# Altium integrated library Silicon Labs Clocks and Oscillators.IntLib: 678 symbols (part 6 of 45)
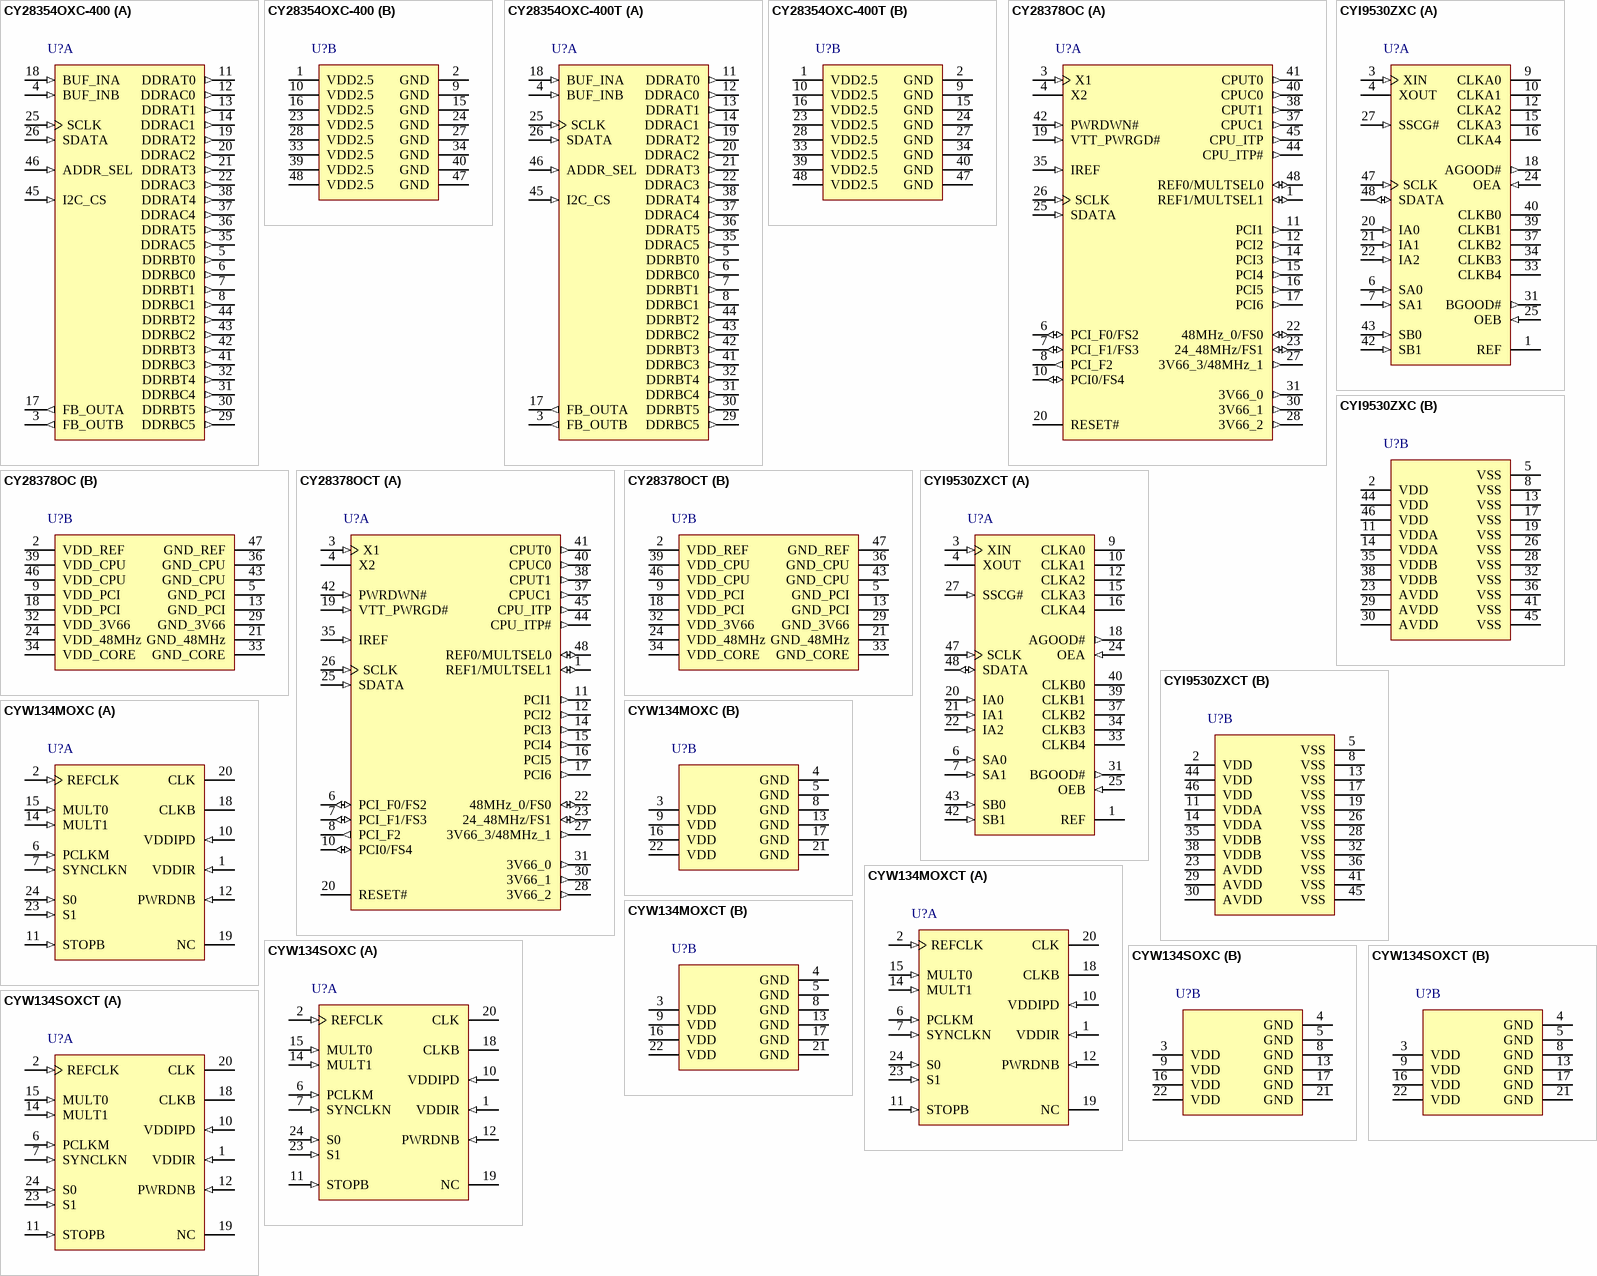
[diagram p49: symbols CY28354OXC-400 to CYW134SOXCT]

## CYW134MOXCT
designator U?
Direct Rambus(TM) Clock Generator, 3.3 V, 25 to 400 MHz Output, 0 to 70 degC, 24-pin SOP, Tape and Reel; Manufacturer: Silicon Labs; PartNumber: CYW134MOXCT; Output Format: RSL; Phase Jitter (RMS): > 1 ps; Reference Inputs: 1; VDD: 3.3 V; Sub-Family: Clock Generators; DatasheetVersion: Rev. *C; PackageReference: QSOP-24; PackageDescription: 24-Pin Quarter-Size Small-Outline Package, Body 8.65 x 3.9 mm, Pitch 0.635 mm; Supplier 1: Digi-Key; Supplier Part Number 1: CYW134MOXCT-ND; Supplier 2: Mouser; Supplier Part Number 2: 634-CYW134MOXCT; Output Frequency (MHz): 25 to 400; Packing: Tape and Reel; Mounting Technology: Surface Mount; ComponentLink1Description: Manufacturer URL; ComponentLink1URL: http://www.silabs.com/; ComponentLink2Description: Datasheet; ComponentLink2URL: http://www.silabs.com/Support%20Documents/TechnicalDocs/W134.pdf; ComponentLink3Description: Package Specification; ComponentLink3URL: http://www.silabs.com/Support%20Documents/TechnicalDocs/W134.pdf
footprint SLAB-QSOP-24_A_N (SOP, 24-Leads, Body 8.7x4mm, Pitch 0.635mm, IPC Medium Density)
footprint SLAB-QSOP-24_A_L (SOP, 24-Leads, Body 8.7x4mm, Pitch 0.635mm, IPC High Density)
footprint SLAB-QSOP-24_A_M (SOP, 24-Leads, Body 8.7x4mm, Pitch 0.635mm, IPC Low Density)
part A pins: 1 VDDIR (in) "Reference for REFCLK. Voltage reference for input reference clock.", 2 REFCLK (in) "Reference Clock Input. Reference clock input, normally supplied by a system frequency synthesizer (Cypress W133).", 6 PCLKM (in) "Phase Detector Input. The phase difference between this signal and SYNCLKN is used to synchronize the Rambus Channel Clock with the system clock. Both PCLKM and SYNCLKN are provided by the Gear Ratio Logic in the memory (See Datasheet)", 7 SYNCLKN (in) "Phase Detector Input. The phase difference between this signal and PCLKM is used to synchronize the Rambus Channel Clock with the system clock. Both PCLKM and SYNCLKN are provided by the Gear Ratio Logic in the memory (See Datasheet)", 10 VDDIPD (in) "Reference for Phase Detector. Voltage reference for phase detector inputs and StopB.", 11 STOPB (in) "Clock Output Enable. When this input is driven to active LOW, it disables the differential Rambus Channel clocks.", 12 PWRDNB (in) "Active LOW Power-down. When this input is driven to active LOW, it disables the differential Rambus Channel clocks and places the W134M/W134S in power-down mode.", 14 MULT1 (in) "PLL Multiplier Select. These inputs select the PLL prescaler and feedback dividers to determine the multiply ratio for the PLL for the input REFCLK.", 15 MULT0 (in) "PLL Multiplier Select. These inputs select the PLL prescaler and feedback dividers to determine the multiply ratio for the PLL for the input REFCLK.", 18 CLKB (hiz) "Complementary Output Clock. Differential Rambus Channel clock outputs.", 19 NC "No Connect", 20 CLK (hiz) "Complementary Output Clock. Differential Rambus Channel clock outputs.", 23 S1 (in) "Mode Control Input. These inputs control the operating mode of the W134M/W134S.", 24 S0 (in) "Mode Control Input. These inputs control the operating mode of the W134M/W134S."
part B pins: 3 VDD (power) "Power Connection. Power supply for core logic and output buffers. Connected to 3.3V supply.", 4 GND (power) "Ground Connection. Connect all ground pins to the common system ground plane.", 5 GND (power) "Ground Connection. Connect all ground pins to the common system ground plane.", 8 GND (power) "Ground Connection. Connect all ground pins to the common system ground plane.", 9 VDD (power) "Power Connection. Power supply for core logic and output buffers. Connected to 3.3V supply.", 13 GND (power) "Ground Connection. Connect all ground pins to the common system ground plane.", 16 VDD (power) "Power Connection. Power supply for core logic and output buffers. Connected to 3.3V supply.", 17 GND (power) "Ground Connection. Connect all ground pins to the common system ground plane.", 21 GND (power) "Ground Connection. Connect all ground pins to the common system ground plane.", 22 VDD (power) "Power Connection. Power supply for core logic and output buffers. Connected to 3.3V supply."

## CYW134SOXC
designator U?
Direct Rambus(TM) Clock Generator, 3.3 V, 25 to 400 MHz Output, 0 to 70 degC, 24-pin SOP; Manufacturer: Silicon Labs; PartNumber: CYW134SOXC; Output Format: RSL; Reference Inputs: 1; VDD: 3.3 V; Sub-Family: Clock Generators; DatasheetVersion: Rev. *C; PackageReference: QSOP-24; PackageDescription: 24-Pin Quarter-Size Small-Outline Package, Body 8.65 x 3.9 mm, Pitch 0.635 mm; Output Frequency (MHz): 25 to 400; Mounting Technology: Surface Mount; ComponentLink1Description: Manufacturer URL; ComponentLink1URL: http://www.silabs.com/; ComponentLink2Description: Datasheet; ComponentLink2URL: http://www.silabs.com/Support%20Documents/TechnicalDocs/W134.pdf; ComponentLink3Description: Package Specification; ComponentLink3URL: http://www.silabs.com/Support%20Documents/TechnicalDocs/W134.pdf
footprint SLAB-QSOP-24_A_N (SOP, 24-Leads, Body 8.7x4mm, Pitch 0.635mm, IPC Medium Density)
footprint SLAB-QSOP-24_A_L (SOP, 24-Leads, Body 8.7x4mm, Pitch 0.635mm, IPC High Density)
footprint SLAB-QSOP-24_A_M (SOP, 24-Leads, Body 8.7x4mm, Pitch 0.635mm, IPC Low Density)
part A pins: 1 VDDIR (in) "Reference for REFCLK. Voltage reference for input reference clock.", 2 REFCLK (in) "Reference Clock Input. Reference clock input, normally supplied by a system frequency synthesizer (Cypress W133).", 6 PCLKM (in) "Phase Detector Input. The phase difference between this signal and SYNCLKN is used to synchronize the Rambus Channel Clock with the system clock. Both PCLKM and SYNCLKN are provided by the Gear Ratio Logic in the memory (See Datasheet)", 7 SYNCLKN (in) "Phase Detector Input. The phase difference between this signal and PCLKM is used to synchronize the Rambus Channel Clock with the system clock. Both PCLKM and SYNCLKN are provided by the Gear Ratio Logic in the memory (See Datasheet)", 10 VDDIPD (in) "Reference for Phase Detector. Voltage reference for phase detector inputs and StopB.", 11 STOPB (in) "Clock Output Enable. When this input is driven to active LOW, it disables the differential Rambus Channel clocks.", 12 PWRDNB (in) "Active LOW Power-down. When this input is driven to active LOW, it disables the differential Rambus Channel clocks and places the W134M/W134S in power-down mode.", 14 MULT1 (in) "PLL Multiplier Select. These inputs select the PLL prescaler and feedback dividers to determine the multiply ratio for the PLL for the input REFCLK.", 15 MULT0 (in) "PLL Multiplier Select. These inputs select the PLL prescaler and feedback dividers to determine the multiply ratio for the PLL for the input REFCLK.", 18 CLKB (hiz) "Complementary Output Clock. Differential Rambus Channel clock outputs.", 19 NC "No Connect", 20 CLK (hiz) "Complementary Output Clock. Differential Rambus Channel clock outputs.", 23 S1 (in) "Mode Control Input. These inputs control the operating mode of the W134M/W134S.", 24 S0 (in) "Mode Control Input. These inputs control the operating mode of the W134M/W134S."
part B pins: 3 VDD (power) "Power Connection. Power supply for core logic and output buffers. Connected to 3.3V supply.", 4 GND (power) "Ground Connection. Connect all ground pins to the common system ground plane.", 5 GND (power) "Ground Connection. Connect all ground pins to the common system ground plane.", 8 GND (power) "Ground Connection. Connect all ground pins to the common system ground plane.", 9 VDD (power) "Power Connection. Power supply for core logic and output buffers. Connected to 3.3V supply.", 13 GND (power) "Ground Connection. Connect all ground pins to the common system ground plane.", 16 VDD (power) "Power Connection. Power supply for core logic and output buffers. Connected to 3.3V supply.", 17 GND (power) "Ground Connection. Connect all ground pins to the common system ground plane.", 21 GND (power) "Ground Connection. Connect all ground pins to the common system ground plane.", 22 VDD (power) "Power Connection. Power supply for core logic and output buffers. Connected to 3.3V supply."

## CYW134SOXCT
designator U?
Direct Rambus(TM) Clock Generator, 3.3 V, 25 to 400 MHz Output, 0 to 70 degC, 24-pin SOP, Tape and Reel; Manufacturer: Silicon Labs; PartNumber: CYW134SOXCT; Output Format: RSL; Phase Jitter (RMS): > 1 ps; Reference Inputs: 1; VDD: 3.3 V; Sub-Family: Clock Generators; DatasheetVersion: Rev. *C; PackageReference: QSOP-24; PackageDescription: 24-Pin Quarter-Size Small-Outline Package, Body 8.65 x 3.9 mm, Pitch 0.635 mm; Output Frequency (MHz): 25 to 400; Packing: Tape and Reel; Mounting Technology: Surface Mount; ComponentLink1Description: Manufacturer URL; ComponentLink1URL: http://www.silabs.com/; ComponentLink2Description: Datasheet; ComponentLink2URL: http://www.silabs.com/Support%20Documents/TechnicalDocs/W134.pdf; ComponentLink3Description: Package Specification; ComponentLink3URL: http://www.silabs.com/Support%20Documents/TechnicalDocs/W134.pdf
footprint SLAB-QSOP-24_A_N (SOP, 24-Leads, Body 8.7x4mm, Pitch 0.635mm, IPC Medium Density)
footprint SLAB-QSOP-24_A_L (SOP, 24-Leads, Body 8.7x4mm, Pitch 0.635mm, IPC High Density)
footprint SLAB-QSOP-24_A_M (SOP, 24-Leads, Body 8.7x4mm, Pitch 0.635mm, IPC Low Density)
part A pins: 1 VDDIR (in) "Reference for REFCLK. Voltage reference for input reference clock.", 2 REFCLK (in) "Reference Clock Input. Reference clock input, normally supplied by a system frequency synthesizer (Cypress W133).", 6 PCLKM (in) "Phase Detector Input. The phase difference between this signal and SYNCLKN is used to synchronize the Rambus Channel Clock with the system clock. Both PCLKM and SYNCLKN are provided by the Gear Ratio Logic in the memory (See Datasheet)", 7 SYNCLKN (in) "Phase Detector Input. The phase difference between this signal and PCLKM is used to synchronize the Rambus Channel Clock with the system clock. Both PCLKM and SYNCLKN are provided by the Gear Ratio Logic in the memory (See Datasheet)", 10 VDDIPD (in) "Reference for Phase Detector. Voltage reference for phase detector inputs and StopB.", 11 STOPB (in) "Clock Output Enable. When this input is driven to active LOW, it disables the differential Rambus Channel clocks.", 12 PWRDNB (in) "Active LOW Power-down. When this input is driven to active LOW, it disables the differential Rambus Channel clocks and places the W134M/W134S in power-down mode.", 14 MULT1 (in) "PLL Multiplier Select. These inputs select the PLL prescaler and feedback dividers to determine the multiply ratio for the PLL for the input REFCLK.", 15 MULT0 (in) "PLL Multiplier Select. These inputs select the PLL prescaler and feedback dividers to determine the multiply ratio for the PLL for the input REFCLK.", 18 CLKB (hiz) "Complementary Output Clock. Differential Rambus Channel clock outputs.", 19 NC "No Connect", 20 CLK (hiz) "Complementary Output Clock. Differential Rambus Channel clock outputs.", 23 S1 (in) "Mode Control Input. These inputs control the operating mode of the W134M/W134S.", 24 S0 (in) "Mode Control Input. These inputs control the operating mode of the W134M/W134S."
part B pins: 3 VDD (power) "Power Connection. Power supply for core logic and output buffers. Connected to 3.3V supply.", 4 GND (power) "Ground Connection. Connect all ground pins to the common system ground plane.", 5 GND (power) "Ground Connection. Connect all ground pins to the common system ground plane.", 8 GND (power) "Ground Connection. Connect all ground pins to the common system ground plane.", 9 VDD (power) "Power Connection. Power supply for core logic and output buffers. Connected to 3.3V supply.", 13 GND (power) "Ground Connection. Connect all ground pins to the common system ground plane.", 16 VDD (power) "Power Connection. Power supply for core logic and output buffers. Connected to 3.3V supply.", 17 GND (power) "Ground Connection. Connect all ground pins to the common system ground plane.", 21 GND (power) "Ground Connection. Connect all ground pins to the common system ground plane.", 22 VDD (power) "Power Connection. Power supply for core logic and output buffers. Connected to 3.3V supply."

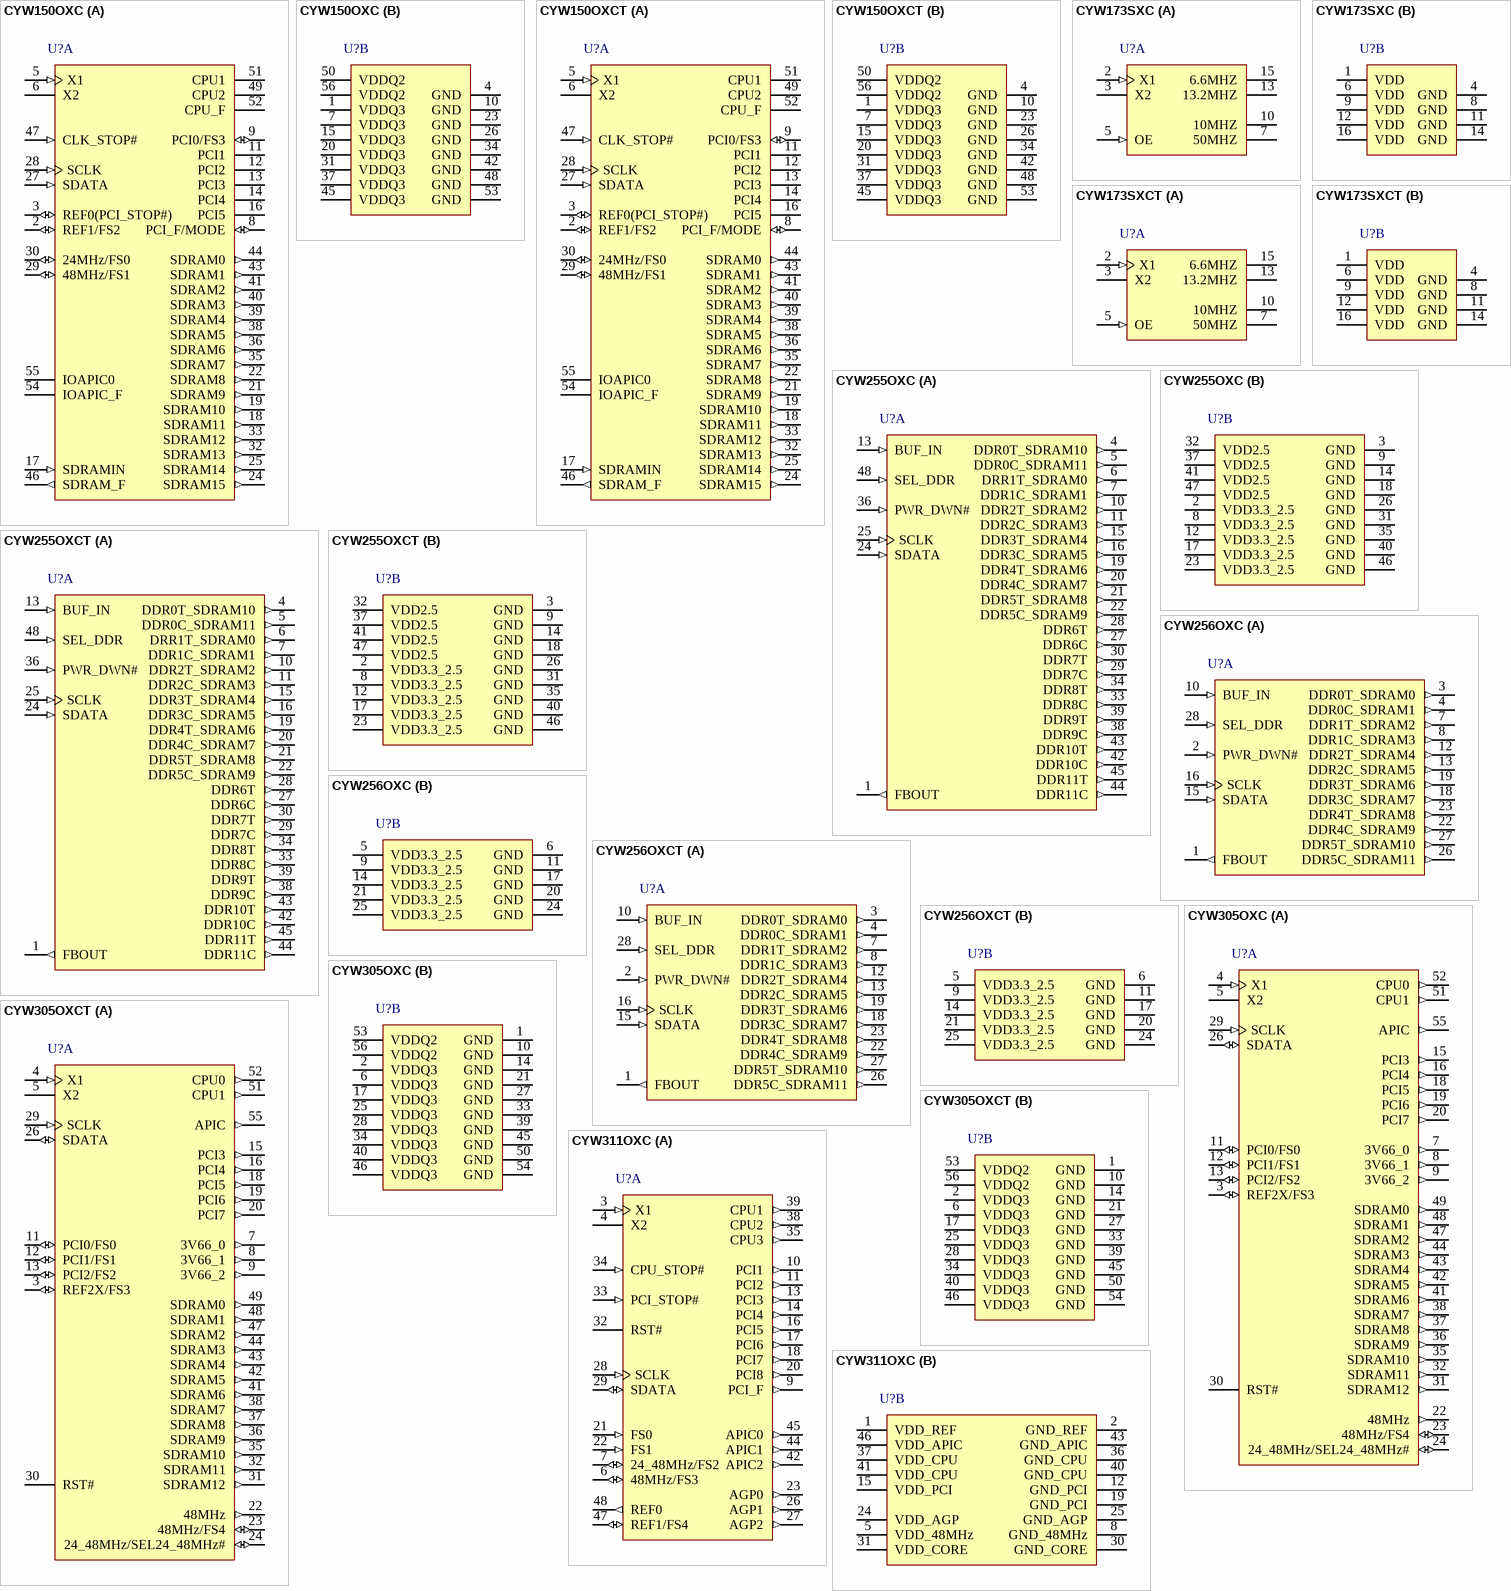
[diagram p6: symbols CYW150OXC to CYW311OXC]

## CYW150OXC
designator U?
440BX AGPset Spread Spectrum Frequency Synthesizer, 3.3 V, 150 MHz Max Output, 0 to 70 degC, 56-pin SOP; Manufacturer: Silicon Labs; PartNumber: CYW150OXC; Output Format: LVCMOS; HCSL; Output Frequency (MHz): 14.3; 24; 31 to 44.43; 48; 66 to 133; 75 to 150; 100; Reference Inputs: 1; VDD: 3.3 V; Sub-Family: Clock Generators; DatasheetVersion: Rev. *B; PackageReference: SSOP-56; PackageDescription: 56-Pin Shrink Small-Outline Package, Body 18.415 x 7.51 mm, Pitch 0.635 mm; Supplier 1: Digi-Key; Supplier Part Number 1: CYW150OXC-ND; Supplier 2: Mouser; Supplier Part Number 2: 634-CYW150OXC; Mounting Technology: Surface Mount; ComponentLink1Description: Manufacturer URL; ComponentLink1URL: http://www.silabs.com/; ComponentLink2Description: Datasheet; ComponentLink2URL: http://www.silabs.com/Support%20Documents/TechnicalDocs/CYW150.pdf; ComponentLink3Description: Package Specification; ComponentLink3URL: http://www.silabs.com/Support%20Documents/TechnicalDocs/W158.pdf
footprint SLAB-SSOP-56_N (SOP, 56-Leads, Body 18.5x7.6mm, Pitch 0.635mm, IPC Medium Density)
footprint SLAB-SSOP-56_L (SOP, 56-Leads, Body 18.5x7.6mm, Pitch 0.635mm, IPC High Density)
footprint SLAB-SSOP-56_M (SOP, 56-Leads, Body 18.5x7.6mm, Pitch 0.635mm, IPC Low Density)
part A pins: 2 REF1/FS2 (io), 3 REF0(PCI_STOP#) (io), 5 X1 (in) "Crystal Connection or External Reference Frequency Input: This pin has dual functions. It can be used as an external 14.318 MHz crystal connection or as an external reference frequency input.", 6 X2 "Crystal Connection: An input connection for an external 14.318-MHz crystal. If using an external reference, this pin must be left unconnected.", 8 PCI_F/MODE (io), 9 PCI0/FS3 (io), 11 PCI1 (hiz) "PCI Outputs 1 through 5: Frequency is set by the FS0:3 inputs or through serial input interface, see Table 2 and Table 6. These outputs are affected by the PCI_STOP# input.", 12 PCI2 (hiz) "PCI Outputs 1 through 5: Frequency is set by the FS0:3 inputs or through serial input interface, see Table 2 and Table 6. These outputs are affected by the PCI_STOP# input.", 13 PCI3 (hiz) "PCI Outputs 1 through 5: Frequency is set by the FS0:3 inputs or through serial input interface, see Table 2 and Table 6. These outputs are affected by the PCI_STOP# input.", 14 PCI4 (hiz) "PCI Outputs 1 through 5: Frequency is set by the FS0:3 inputs or through serial input interface, see Table 2 and Table 6. These outputs are affected by the PCI_STOP# input.", 16 PCI5 (hiz) "PCI Outputs 1 through 5: Frequency is set by the FS0:3 inputs or through serial input interface, see Table 2 and Table 6. These outputs are affected by the PCI_STOP# input.", 17 SDRAMIN (in) "Buffered Input Pin: The signal provided to this input pin is buffered to 17 outputs (SDRAM0:15, SDRAM_F).", 18 SDRAM11 (out) "Buffered Outputs: These sixteen dedicated outputs provide copies of the signal provided at the SDRAMIN input. The swing is set by VDDQ3, and they are deactivated when CLK_STOP# input is set LOW.", 19 SDRAM10 (out) "Buffered Outputs: These sixteen dedicated outputs provide copies of the signal provided at the SDRAMIN input. The swing is set by VDDQ3, and they are deactivated when CLK_STOP# input is set LOW.", 21 SDRAM9 (out) "Buffered Outputs: These sixteen dedicated outputs provide copies of the signal provided at the SDRAMIN input. The swing is set by VDDQ3, and they are deactivated when CLK_STOP# input is set LOW.", 22 SDRAM8 (out) "Buffered Outputs: These sixteen dedicated outputs provide copies of the signal provided at the SDRAMIN input. The swing is set by VDDQ3, and they are deactivated when CLK_STOP# input is set LOW.", 24 SDRAM15 (out) "Buffered Outputs: These sixteen dedicated outputs provide copies of the signal provided at the SDRAMIN input. The swing is set by VDDQ3, and they are deactivated when CLK_STOP# input is set LOW.", 25 SDRAM14 (out) "Buffered Outputs: These sixteen dedicated outputs provide copies of the signal provided at the SDRAMIN input. The swing is set by VDDQ3, and they are deactivated when CLK_STOP# input is set LOW.", 27 SDATA (in) "Data pin for SMBus circuitry.", 28 SCLK (in) "Clock pin for SMBus circuitry.", 29 48MHz/FS1 (io), 30 24MHz/FS0 (io), 32 SDRAM13 (out) "Buffered Outputs: These sixteen dedicated outputs provide copies of the signal provided at the SDRAMIN input. The swing is set by VDDQ3, and they are deactivated when CLK_STOP# input is set LOW.", 33 SDRAM12 (out) "Buffered Outputs: These sixteen dedicated outputs provide copies of the signal provided at the SDRAMIN input. The swing is set by VDDQ3, and they are deactivated when CLK_STOP# input is set LOW.", 35 SDRAM7 (out) "Buffered Outputs: These sixteen dedicated outputs provide copies of the signal provided at the SDRAMIN input. The swing is set by VDDQ3, and they are deactivated when CLK_STOP# input is set LOW.", 36 SDRAM6 (out) "Buffered Outputs: These sixteen dedicated outputs provide copies of the signal provided at the SDRAMIN input. The swing is set by VDDQ3, and they are deactivated when CLK_STOP# input is set LOW.", 38 SDRAM5 (out) "Buffered Outputs: These sixteen dedicated outputs provide copies of the signal provided at the SDRAMIN input. The swing is set by VDDQ3, and they are deactivated when CLK_STOP# input is set LOW.", 39 SDRAM4 (out) "Buffered Outputs: These sixteen dedicated outputs provide copies of the signal provided at the SDRAMIN input. The swing is set by VDDQ3, and they are deactivated when CLK_STOP# input is set LOW.", 40 SDRAM3 (out) "Buffered Outputs: These sixteen dedicated outputs provide copies of the signal provided at the SDRAMIN input. The swing is set by VDDQ3, and they are deactivated when CLK_STOP# input is set LOW.", 41 SDRAM2 (out) "Buffered Outputs: These sixteen dedicated outputs provide copies of the signal provided at the SDRAMIN input. The swing is set by VDDQ3, and they are deactivated when CLK_STOP# input is set LOW.", 43 SDRAM1 (out) "Buffered Outputs: These sixteen dedicated outputs provide copies of the signal provided at the SDRAMIN input. The swing is set by VDDQ3, and they are deactivated when CLK_STOP# input is set LOW.", 44 SDRAM0 (out) "Buffered Outputs: These sixteen dedicated outputs provide copies of the signal provided at the SDRAMIN input. The swing is set by VDDQ3, and they are deactivated when CLK_STOP# input is set LOW.", 46 SDRAM_F (out) "Free-Running Buffered Output: This output provides a single copy of the SDRAMIN input. The swing is set by VDDQ3; this signal is unaffected by the CLK_STOP# input.", 47 CLK_STOP# (in) "CLK_STOP# Input: When brought LOW, affected outputs are stopped LOW after completing a full clock cycle (2-3 CPU clock latency). When brought HIGH, affected outputs start beginning with a full clock cycle (2-3 CPU clock (See Datasheet)", 49 CPU2 (hiz) "CPU Outputs 1 and 2: Frequency is set by the FS0:3 inputs or through serial input interface, see Table 2 and Table 6. These outputs are affected by the CLK_STOP# input.", 51 CPU1 (hiz) "CPU Outputs 1 and 2: Frequency is set by the FS0:3 inputs or through serial input interface, see Table 2 and Table 6. These outputs are affected by the CLK_STOP# input.", 52 CPU_F (hiz) "Free-Running CPU Output: Frequency is set by the FS0:3 inputs or through serial input interface, see Table 2 and Table 6. This output is not affected by the CLK_STOP# input.", 54 IOAPIC_F (hiz) "Free-running IOAPIC Output: This output is a buffered version of the reference input which is not affected by the CPU_STOP# logic input. Its swing is set by voltage applied to VDDQ2.", 55 IOAPIC0 (hiz) "IOAPIC Output: Provides 14.318 MHz fixed frequency. The output voltage swing is set by voltage applied to VDDQ2. This output is disabled when CLK_STOP# is set LOW."
part B pins: 1 VDDQ3 (power) "Power Connection: Power supply for core logic, PLL circuitry, SDRAM output buffers, PCI output buffers, reference output buffers, and 48 MHz/24 MHz output buffers. Connect to 3.3V.", 4 GND (power) "Ground Connections: Connect all ground pins to the common system ground plane.", 7 VDDQ3 (power) "Power Connection: Power supply for core logic, PLL circuitry, SDRAM output buffers, PCI output buffers, reference output buffers, and 48 MHz/24 MHz output buffers. Connect to 3.3V.", 10 GND (power) "Ground Connections: Connect all ground pins to the common system ground plane.", 15 VDDQ3 (power) "Power Connection: Power supply for core logic, PLL circuitry, SDRAM output buffers, PCI output buffers, reference output buffers, and 48 MHz/24 MHz output buffers. Connect to 3.3V.", 20 VDDQ3 (power) "Power Connection: Power supply for core logic, PLL circuitry, SDRAM output buffers, PCI output buffers, reference output buffers, and 48 MHz/24 MHz output buffers. Connect to 3.3V.", 23 GND (power) "Ground Connections: Connect all ground pins to the common system ground plane.", 26 GND (power) "Ground Connections: Connect all ground pins to the common system ground plane.", 31 VDDQ3 (power) "Power Connection: Power supply for core logic, PLL circuitry, SDRAM output buffers, PCI output buffers, reference output buffers, and 48 MHz/24 MHz output buffers. Connect to 3.3V.", 34 GND (power) "Ground Connections: Connect all ground pins to the common system ground plane.", 37 VDDQ3 (power) "Power Connection: Power supply for core logic, PLL circuitry, SDRAM output buffers, PCI output buffers, reference output buffers, and 48 MHz/24 MHz output buffers. Connect to 3.3V.", 42 GND (power) "Ground Connections: Connect all ground pins to the common system ground plane.", 45 VDDQ3 (power) "Power Connection: Power supply for core logic, PLL circuitry, SDRAM output buffers, PCI output buffers, reference output buffers, and 48 MHz/24 MHz output buffers. Connect to 3.3V.", 48 GND (power) "Ground Connections: Connect all ground pins to the common system ground plane.", 50 VDDQ2 (power) "Power Connection: Power supply for IOAPIC and CPU output buffers. Connect to 2.5V or 3.3V.", 53 GND (power) "Ground Connections: Connect all ground pins to the common system ground plane.", 56 VDDQ2 (power) "Power Connection: Power supply for IOAPIC and CPU output buffers. Connect to 2.5V or 3.3V."

## CYW150OXCT
designator U?
440BX AGPset Spread Spectrum Frequency Synthesizer, 3.3 V, 150 MHz Max Output, 0 to 70 degC, 56-pin SOP, Tape and Reel; Manufacturer: Silicon Labs; PartNumber: CYW150OXCT; Output Format: LVCMOS; HCSL; Output Frequency (MHz): 14.3; 24; 31 to 44.43; 48; 66 to 133; 75 to 150; 100; Phase Jitter (RMS): > 1 ps; Reference Inputs: 1; VDD: 3.3 V; Sub-Family: Clock Generators; DatasheetVersion: Rev. *B; PackageReference: SSOP-56; PackageDescription: 56-Pin Shrink Small-Outline Package, Body 18.415 x 7.51 mm, Pitch 0.635 mm; Supplier 1: Digi-Key; Supplier Part Number 1: CYW150OXCT-ND; Supplier 2: Mouser; Supplier Part Number 2: 634-CYW150OXCT; Packing: Tape and Reel; Mounting Technology: Surface Mount; ComponentLink1Description: Manufacturer URL; ComponentLink1URL: http://www.silabs.com/; ComponentLink2Description: Datasheet; ComponentLink2URL: http://www.silabs.com/Support%20Documents/TechnicalDocs/CYW150.pdf; ComponentLink3Description: Package Specification; ComponentLink3URL: http://www.silabs.com/Support%20Documents/TechnicalDocs/W158.pdf
footprint SLAB-SSOP-56_N (SOP, 56-Leads, Body 18.5x7.6mm, Pitch 0.635mm, IPC Medium Density)
footprint SLAB-SSOP-56_L (SOP, 56-Leads, Body 18.5x7.6mm, Pitch 0.635mm, IPC High Density)
footprint SLAB-SSOP-56_M (SOP, 56-Leads, Body 18.5x7.6mm, Pitch 0.635mm, IPC Low Density)
part A pins: 2 REF1/FS2 (io), 3 REF0(PCI_STOP#) (io), 5 X1 (in) "Crystal Connection or External Reference Frequency Input: This pin has dual functions. It can be used as an external 14.318 MHz crystal connection or as an external reference frequency input.", 6 X2 "Crystal Connection: An input connection for an external 14.318-MHz crystal. If using an external reference, this pin must be left unconnected.", 8 PCI_F/MODE (io), 9 PCI0/FS3 (io), 11 PCI1 (hiz) "PCI Outputs 1 through 5: Frequency is set by the FS0:3 inputs or through serial input interface, see Table 2 and Table 6. These outputs are affected by the PCI_STOP# input.", 12 PCI2 (hiz) "PCI Outputs 1 through 5: Frequency is set by the FS0:3 inputs or through serial input interface, see Table 2 and Table 6. These outputs are affected by the PCI_STOP# input.", 13 PCI3 (hiz) "PCI Outputs 1 through 5: Frequency is set by the FS0:3 inputs or through serial input interface, see Table 2 and Table 6. These outputs are affected by the PCI_STOP# input.", 14 PCI4 (hiz) "PCI Outputs 1 through 5: Frequency is set by the FS0:3 inputs or through serial input interface, see Table 2 and Table 6. These outputs are affected by the PCI_STOP# input.", 16 PCI5 (hiz) "PCI Outputs 1 through 5: Frequency is set by the FS0:3 inputs or through serial input interface, see Table 2 and Table 6. These outputs are affected by the PCI_STOP# input.", 17 SDRAMIN (in) "Buffered Input Pin: The signal provided to this input pin is buffered to 17 outputs (SDRAM0:15, SDRAM_F).", 18 SDRAM11 (out) "Buffered Outputs: These sixteen dedicated outputs provide copies of the signal provided at the SDRAMIN input. The swing is set by VDDQ3, and they are deactivated when CLK_STOP# input is set LOW.", 19 SDRAM10 (out) "Buffered Outputs: These sixteen dedicated outputs provide copies of the signal provided at the SDRAMIN input. The swing is set by VDDQ3, and they are deactivated when CLK_STOP# input is set LOW.", 21 SDRAM9 (out) "Buffered Outputs: These sixteen dedicated outputs provide copies of the signal provided at the SDRAMIN input. The swing is set by VDDQ3, and they are deactivated when CLK_STOP# input is set LOW.", 22 SDRAM8 (out) "Buffered Outputs: These sixteen dedicated outputs provide copies of the signal provided at the SDRAMIN input. The swing is set by VDDQ3, and they are deactivated when CLK_STOP# input is set LOW.", 24 SDRAM15 (out) "Buffered Outputs: These sixteen dedicated outputs provide copies of the signal provided at the SDRAMIN input. The swing is set by VDDQ3, and they are deactivated when CLK_STOP# input is set LOW.", 25 SDRAM14 (out) "Buffered Outputs: These sixteen dedicated outputs provide copies of the signal provided at the SDRAMIN input. The swing is set by VDDQ3, and they are deactivated when CLK_STOP# input is set LOW.", 27 SDATA (in) "Data pin for SMBus circuitry.", 28 SCLK (in) "Clock pin for SMBus circuitry.", 29 48MHz/FS1 (io), 30 24MHz/FS0 (io), 32 SDRAM13 (out) "Buffered Outputs: These sixteen dedicated outputs provide copies of the signal provided at the SDRAMIN input. The swing is set by VDDQ3, and they are deactivated when CLK_STOP# input is set LOW.", 33 SDRAM12 (out) "Buffered Outputs: These sixteen dedicated outputs provide copies of the signal provided at the SDRAMIN input. The swing is set by VDDQ3, and they are deactivated when CLK_STOP# input is set LOW.", 35 SDRAM7 (out) "Buffered Outputs: These sixteen dedicated outputs provide copies of the signal provided at the SDRAMIN input. The swing is set by VDDQ3, and they are deactivated when CLK_STOP# input is set LOW.", 36 SDRAM6 (out) "Buffered Outputs: These sixteen dedicated outputs provide copies of the signal provided at the SDRAMIN input. The swing is set by VDDQ3, and they are deactivated when CLK_STOP# input is set LOW.", 38 SDRAM5 (out) "Buffered Outputs: These sixteen dedicated outputs provide copies of the signal provided at the SDRAMIN input. The swing is set by VDDQ3, and they are deactivated when CLK_STOP# input is set LOW.", 39 SDRAM4 (out) "Buffered Outputs: These sixteen dedicated outputs provide copies of the signal provided at the SDRAMIN input. The swing is set by VDDQ3, and they are deactivated when CLK_STOP# input is set LOW.", 40 SDRAM3 (out) "Buffered Outputs: These sixteen dedicated outputs provide copies of the signal provided at the SDRAMIN input. The swing is set by VDDQ3, and they are deactivated when CLK_STOP# input is set LOW.", 41 SDRAM2 (out) "Buffered Outputs: These sixteen dedicated outputs provide copies of the signal provided at the SDRAMIN input. The swing is set by VDDQ3, and they are deactivated when CLK_STOP# input is set LOW.", 43 SDRAM1 (out) "Buffered Outputs: These sixteen dedicated outputs provide copies of the signal provided at the SDRAMIN input. The swing is set by VDDQ3, and they are deactivated when CLK_STOP# input is set LOW.", 44 SDRAM0 (out) "Buffered Outputs: These sixteen dedicated outputs provide copies of the signal provided at the SDRAMIN input. The swing is set by VDDQ3, and they are deactivated when CLK_STOP# input is set LOW.", 46 SDRAM_F (out) "Free-Running Buffered Output: This output provides a single copy of the SDRAMIN input. The swing is set by VDDQ3; this signal is unaffected by the CLK_STOP# input.", 47 CLK_STOP# (in) "CLK_STOP# Input: When brought LOW, affected outputs are stopped LOW after completing a full clock cycle (2-3 CPU clock latency). When brought HIGH, affected outputs start beginning with a full clock cycle (2-3 CPU clock (See Datasheet)", 49 CPU2 (hiz) "CPU Outputs 1 and 2: Frequency is set by the FS0:3 inputs or through serial input interface, see Table 2 and Table 6. These outputs are affected by the CLK_STOP# input.", 51 CPU1 (hiz) "CPU Outputs 1 and 2: Frequency is set by the FS0:3 inputs or through serial input interface, see Table 2 and Table 6. These outputs are affected by the CLK_STOP# input.", 52 CPU_F (hiz) "Free-Running CPU Output: Frequency is set by the FS0:3 inputs or through serial input interface, see Table 2 and Table 6. This output is not affected by the CLK_STOP# input.", 54 IOAPIC_F (hiz) "Free-running IOAPIC Output: This output is a buffered version of the reference input which is not affected by the CPU_STOP# logic input. Its swing is set by voltage applied to VDDQ2.", 55 IOAPIC0 (hiz) "IOAPIC Output: Provides 14.318 MHz fixed frequency. The output voltage swing is set by voltage applied to VDDQ2. This output is disabled when CLK_STOP# is set LOW."
part B pins: 1 VDDQ3 (power) "Power Connection: Power supply for core logic, PLL circuitry, SDRAM output buffers, PCI output buffers, reference output buffers, and 48 MHz/24 MHz output buffers. Connect to 3.3V.", 4 GND (power) "Ground Connections: Connect all ground pins to the common system ground plane.", 7 VDDQ3 (power) "Power Connection: Power supply for core logic, PLL circuitry, SDRAM output buffers, PCI output buffers, reference output buffers, and 48 MHz/24 MHz output buffers. Connect to 3.3V.", 10 GND (power) "Ground Connections: Connect all ground pins to the common system ground plane.", 15 VDDQ3 (power) "Power Connection: Power supply for core logic, PLL circuitry, SDRAM output buffers, PCI output buffers, reference output buffers, and 48 MHz/24 MHz output buffers. Connect to 3.3V.", 20 VDDQ3 (power) "Power Connection: Power supply for core logic, PLL circuitry, SDRAM output buffers, PCI output buffers, reference output buffers, and 48 MHz/24 MHz output buffers. Connect to 3.3V.", 23 GND (power) "Ground Connections: Connect all ground pins to the common system ground plane.", 26 GND (power) "Ground Connections: Connect all ground pins to the common system ground plane.", 31 VDDQ3 (power) "Power Connection: Power supply for core logic, PLL circuitry, SDRAM output buffers, PCI output buffers, reference output buffers, and 48 MHz/24 MHz output buffers. Connect to 3.3V.", 34 GND (power) "Ground Connections: Connect all ground pins to the common system ground plane.", 37 VDDQ3 (power) "Power Connection: Power supply for core logic, PLL circuitry, SDRAM output buffers, PCI output buffers, reference output buffers, and 48 MHz/24 MHz output buffers. Connect to 3.3V.", 42 GND (power) "Ground Connections: Connect all ground pins to the common system ground plane.", 45 VDDQ3 (power) "Power Connection: Power supply for core logic, PLL circuitry, SDRAM output buffers, PCI output buffers, reference output buffers, and 48 MHz/24 MHz output buffers. Connect to 3.3V.", 48 GND (power) "Ground Connections: Connect all ground pins to the common system ground plane.", 50 VDDQ2 (power) "Power Connection: Power supply for IOAPIC and CPU output buffers. Connect to 2.5V or 3.3V.", 53 GND (power) "Ground Connections: Connect all ground pins to the common system ground plane.", 56 VDDQ2 (power) "Power Connection: Power supply for IOAPIC and CPU output buffers. Connect to 2.5V or 3.3V."

## CYW173SXC
designator U?
Tape Drive Frequency Timing Generator, 3.3 / 5 V, 50 MHz Max Output, 0 to 70 degC, 16-pin SOIC; Manufacturer: Silicon Labs; PartNumber: CYW173SXC; Output Format: TTL; Output Frequency (MHz): 6.6; 10; 13.2; 50; Reference Inputs: 1; VDD: 3.3 or 5 V; Sub-Family: Clock Generators; DatasheetVersion: Rev. *B; PackageReference: SOIC-16; PackageDescription: 16-Pin Small-Outline Integrated Circuit, Body 9.9 x 3.9 mm, Pitch 1.27 mm; Supplier 1: Digi-Key; Supplier Part Number 1: CYW173SXC-ND; Supplier 2: Mouser; Supplier Part Number 2: 634-CYW173SXC; Mounting Technology: Surface Mount; ComponentLink1Description: Manufacturer URL; ComponentLink1URL: http://www.silabs.com/; ComponentLink2Description: Datasheet; ComponentLink2URL: http://www.silabs.com/Support%20Documents/TechnicalDocs/W173.pdf; ComponentLink3Description: Package Specification; ComponentLink3URL: http://www.silabs.com/Support%20Documents/TechnicalDocs/SL2309.pdf
footprint SLAB-SOIC-16_N (SOIC, 16-Leads, Body 10x4mm, Pitch 1.27mm, IPC Medium Density)
footprint SLAB-SOIC-16_L (SOIC, 16-Leads, Body 10x4mm, Pitch 1.27mm, IPC High Density)
footprint SLAB-SOIC-16_M (SOIC, 16-Leads, Body 10x4mm, Pitch 1.27mm, IPC Low Density)
part A pins: 2 X1 (in) "External Crystal Connection: This pin has dual functions. It can be used as an external 26.5625 MHz crystal connection or as an external reference frequency input.", 3 X2 "External Crystal Connection: An input connection for an external 26.5625 MHz crystal. If using an external reference, this pin must be left unconnected.", 5 OE (in) "Output Enable: When LOW, this input signal puts all outputs into a high-impedance state.", 7 50MHZ (hiz) "Clock Output: Provides a TTL-level timing signal proportional in frequency to the input signal. For a 26.5625 MHz reference, the frequency will be 50.0 MHz.", 10 10MHZ (hiz) "Clock Output: Provides a TTL-level timing signal proportional in frequency to the input signal. For a 26.5625 MHz reference, the frequency will be 10.0 MHz.", 13 13.2MHZ (hiz) "Clock Output: Provides a TTL-level timing signal proportional in frequency to the input signal. For a 26.5625 MHz reference, the frequency will be 13.2 MHz.", 15 6.6MHZ (hiz) "Clock Output: Provides a TTL-level timing signal proportional in frequency to the input signal. For a 26.5625 MHz reference, the frequency will be 6.6 MHz."
part B pins: 1 VDD (power) "Power Supply Connections: Connect both VDD pins to the same voltage, either 3.3V or 5.0V. Each VDD pin should have a decoupling capacitor (such as 0.1 uF) placed as close to the pin as possible.", 4 GND (power) "Ground Connections: Connect all ground pins to the common system ground plane.", 6 VDD (power) "Power Supply Connections: Connect both VDD pins to the same voltage, either 3.3V or 5.0V. Each VDD pin should have a decoupling capacitor (such as 0.1 uF) placed as close to the pin as possible.", 8 GND (power) "Ground Connections: Connect all ground pins to the common system ground plane.", 9 VDD (power) "Power Supply Connections: Connect both VDD pins to the same voltage, either 3.3V or 5.0V. Each VDD pin should have a decoupling capacitor (such as 0.1 uF) placed as close to the pin as possible.", 11 GND (power) "Ground Connections: Connect all ground pins to the common system ground plane.", 12 VDD (power) "Power Supply Connections: Connect both VDD pins to the same voltage, either 3.3V or 5.0V. Each VDD pin should have a decoupling capacitor (such as 0.1 uF) placed as close to the pin as possible.", 14 GND (power) "Ground Connections: Connect all ground pins to the common system ground plane.", 16 VDD (power) "Power Supply Connections: Connect both VDD pins to the same voltage, either 3.3V or 5.0V. Each VDD pin should have a decoupling capacitor (such as 0.1 uF) placed as close to the pin as possible."

## CYW173SXCT
designator U?
Tape Drive Frequency Timing Generator, 3.3 / 5 V, 50 MHz Max Output, 0 to 70 degC, 16-pin SOIC, Tape and Reel; Manufacturer: Silicon Labs; PartNumber: CYW173SXCT; Output Format: TTL; Output Frequency (MHz): 6.6; 10; 13.2; 50; Phase Jitter (RMS): > 1 ps; Reference Inputs: 1; VDD: 3.3 or 5 V; Sub-Family: Clock Generators; DatasheetVersion: Rev. *B; PackageReference: SOIC-16; PackageDescription: 16-Pin Small-Outline Integrated Circuit, Body 9.9 x 3.9 mm, Pitch 1.27 mm; Supplier 1: Digi-Key; Supplier Part Number 1: CYW173SXCT-ND; Supplier 2: Mouser; Supplier Part Number 2: 634-CYW173SXCT; Packing: Tape and Reel; Mounting Technology: Surface Mount; ComponentLink1Description: Manufacturer URL; ComponentLink1URL: http://www.silabs.com/; ComponentLink2Description: Datasheet; ComponentLink2URL: http://www.silabs.com/Support%20Documents/TechnicalDocs/W173.pdf; ComponentLink3Description: Package Specification; ComponentLink3URL: http://www.silabs.com/Support%20Documents/TechnicalDocs/SL2309.pdf
footprint SLAB-SOIC-16_N (SOIC, 16-Leads, Body 10x4mm, Pitch 1.27mm, IPC Medium Density)
footprint SLAB-SOIC-16_L (SOIC, 16-Leads, Body 10x4mm, Pitch 1.27mm, IPC High Density)
footprint SLAB-SOIC-16_M (SOIC, 16-Leads, Body 10x4mm, Pitch 1.27mm, IPC Low Density)
part A pins: 2 X1 (in) "External Crystal Connection: This pin has dual functions. It can be used as an external 26.5625 MHz crystal connection or as an external reference frequency input.", 3 X2 "External Crystal Connection: An input connection for an external 26.5625 MHz crystal. If using an external reference, this pin must be left unconnected.", 5 OE (in) "Output Enable: When LOW, this input signal puts all outputs into a high-impedance state.", 7 50MHZ (hiz) "Clock Output: Provides a TTL-level timing signal proportional in frequency to the input signal. For a 26.5625 MHz reference, the frequency will be 50.0 MHz.", 10 10MHZ (hiz) "Clock Output: Provides a TTL-level timing signal proportional in frequency to the input signal. For a 26.5625 MHz reference, the frequency will be 10.0 MHz.", 13 13.2MHZ (hiz) "Clock Output: Provides a TTL-level timing signal proportional in frequency to the input signal. For a 26.5625 MHz reference, the frequency will be 13.2 MHz.", 15 6.6MHZ (hiz) "Clock Output: Provides a TTL-level timing signal proportional in frequency to the input signal. For a 26.5625 MHz reference, the frequency will be 6.6 MHz."
part B pins: 1 VDD (power) "Power Supply Connections: Connect both VDD pins to the same voltage, either 3.3V or 5.0V. Each VDD pin should have a decoupling capacitor (such as 0.1 uF) placed as close to the pin as possible.", 4 GND (power) "Ground Connections: Connect all ground pins to the common system ground plane.", 6 VDD (power) "Power Supply Connections: Connect both VDD pins to the same voltage, either 3.3V or 5.0V. Each VDD pin should have a decoupling capacitor (such as 0.1 uF) placed as close to the pin as possible.", 8 GND (power) "Ground Connections: Connect all ground pins to the common system ground plane.", 9 VDD (power) "Power Supply Connections: Connect both VDD pins to the same voltage, either 3.3V or 5.0V. Each VDD pin should have a decoupling capacitor (such as 0.1 uF) placed as close to the pin as possible.", 11 GND (power) "Ground Connections: Connect all ground pins to the common system ground plane.", 12 VDD (power) "Power Supply Connections: Connect both VDD pins to the same voltage, either 3.3V or 5.0V. Each VDD pin should have a decoupling capacitor (such as 0.1 uF) placed as close to the pin as possible.", 14 GND (power) "Ground Connections: Connect all ground pins to the common system ground plane.", 16 VDD (power) "Power Supply Connections: Connect both VDD pins to the same voltage, either 3.3V or 5.0V. Each VDD pin should have a decoupling capacitor (such as 0.1 uF) placed as close to the pin as possible."

## CYW255OXC
designator U?
24-Output Buffer for 4 DDR or 3 SDRAM DIMMS, 2.5 / 3.3 V, 66 to 200 MHz Output, 0 to 70 degC, 48-pin SOP; Manufacturer: Silicon Labs; PartNumber: CYW255OXC; Output Format: SSTL2; LVCMOS; Reference Inputs: 1; VDD: 2.5 V; 3.3 V; Sub-Family: Clock Generators; DatasheetVersion: Rev. *D; PackageReference: SSOP-48; PackageDescription: 48-Pin Shrink Small-Outline Package, Body 15.875 x 7.51 mm, Pitch 0.635 mm; Supplier 1: Digi-Key; Supplier Part Number 1: CYW255OXC-ND; Supplier 2: Mouser; Supplier Part Number 2: 634-CYW255OXC; Output Frequency (MHz): 66 to 200; Mounting Technology: Surface Mount; ComponentLink1Description: Manufacturer URL; ComponentLink1URL: http://www.silabs.com/; ComponentLink2Description: Datasheet; ComponentLink2URL: http://www.silabs.com/Support%20Documents/TechnicalDocs/W255.pdf; ComponentLink3Description: Package Specification; ComponentLink3URL: http://www.silabs.com/Support%20Documents/TechnicalDocs/W255.pdf
footprint SLAB-SSOP-48_N (SOP, 48-Leads, Body 16x7.6mm, Pitch 0.635mm, IPC Medium Density)
footprint SLAB-SSOP-48_L (SOP, 48-Leads, Body 16x7.6mm, Pitch 0.635mm, IPC High Density)
footprint SLAB-SSOP-48_M (SOP, 48-Leads, Body 16x7.6mm, Pitch 0.635mm, IPC Low Density)
part A pins: 1 FBOUT (out) "Feedback clock for chipset. Output voltage depends on VDD3.3_2.5V.", 4 DDR0T_SDRAM10 (out) "Clock outputs. These outputs provide copies of BUF_IN. Voltage swing depends on VDD3.3_2.5 power supply.", 5 DDR0C_SDRAM11 (out) "Clock outputs. These outputs provide complementary copies of BUF_IN when SEL_DDR is active. These outputs provide copies of BUF_IN when SEL_DDR is inactive. Voltage swing depends on VDD3.3_2.5 power supply.", 6 DRR1T_SDRAM0 (out) "Clock outputs. These outputs provide copies of BUF_IN. Voltage swing depends on VDD3.3_2.5 power supply.", 7 DDR1C_SDRAM1 (out) "Clock outputs. These outputs provide complementary copies of BUF_IN when SEL_DDR is active. These outputs provide copies of BUF_IN when SEL_DDR is inactive. Voltage swing depends on VDD3.3_2.5 power supply.", 10 DDR2T_SDRAM2 (out) "Clock outputs. These outputs provide copies of BUF_IN. Voltage swing depends on VDD3.3_2.5 power supply.", 11 DDR2C_SDRAM3 (out) "Clock outputs. These outputs provide complementary copies of BUF_IN when SEL_DDR is active. These outputs provide copies of BUF_IN when SEL_DDR is inactive. Voltage swing depends on VDD3.3_2.5 power supply.", 13 BUF_IN (in) "Reference input from chipset. 2.5V input for DDR-ONLY mode; 3.3V input for STANDARD SDRAM mode.", 15 DDR3T_SDRAM4 (out) "Clock outputs. These outputs provide copies of BUF_IN. Voltage swing depends on VDD3.3_2.5 power supply.", 16 DDR3C_SDRAM5 (out) "Clock outputs. These outputs provide complementary copies of BUF_IN when SEL_DDR is active. These outputs provide copies of BUF_IN when SEL_DDR is inactive. Voltage swing depends on VDD3.3_2.5 power supply.", 19 DDR4T_SDRAM6 (out) "Clock outputs. These outputs provide copies of BUF_IN. Voltage swing depends on VDD3.3_2.5 power supply.", 20 DDR4C_SDRAM7 (out) "Clock outputs. These outputs provide complementary copies of BUF_IN when SEL_DDR is active. These outputs provide copies of BUF_IN when SEL_DDR is inactive. Voltage swing depends on VDD3.3_2.5 power supply.", 21 DDR5T_SDRAM8 (out) "Clock outputs. These outputs provide copies of BUF_IN. Voltage swing depends on VDD3.3_2.5 power supply.", 22 DDR5C_SDRAM9 (out) "Clock outputs. These outputs provide complementary copies of BUF_IN when SEL_DDR is active. These outputs provide copies of BUF_IN when SEL_DDR is inactive. Voltage swing depends on VDD3.3_2.5 power supply.", 24 SDATA (in) "SMBus data input", 25 SCLK (in) "SMBus clock input", 27 DDR6C (out) "Clock outputs. These outputs provide complementary copies of BUF_IN.", 28 DDR6T (out) "Clock outputs. These outputs provide copies of BUF_IN.", 29 DDR7C (out) "Clock outputs. These outputs provide complementary copies of BUF_IN.", 30 DDR7T (out) "Clock outputs. These outputs provide copies of BUF_IN.", 33 DDR8C (out) "Clock outputs. These outputs provide complementary copies of BUF_IN.", 34 DDR8T (out) "Clock outputs. These outputs provide copies of BUF_IN.", 36 PWR_DWN# (in) "Active LOW input to enable power-down mode; all outputs will be pulled LOW.", 38 DDR9C (out) "Clock outputs. These outputs provide complementary copies of BUF_IN.", 39 DDR9T (out) "Clock outputs. These outputs provide copies of BUF_IN.", 42 DDR10C (out) "Clock outputs. These outputs provide complementary copies of BUF_IN.", 43 DDR10T (out) "Clock outputs. These outputs provide copies of BUF_IN.", 44 DDR11C (out) "Clock outputs. These outputs provide complementary copies of BUF_IN.", 45 DDR11T (out) "Clock outputs. These outputs provide copies of BUF_IN.", 48 SEL_DDR (in) "Input to configure for DDR-ONLY mode or STANDARD SDRAM mode. 1 = DDR-ONLY mode. 0 = STANDARD SDRAM mode. When SEL_DDR is pulled HIGH or configured for DDR-ONLY mode, pin 4, 5, 6, 7, 10, 11,15, 16, 19, 20, 21, 22, 27, 28, 29, (See Datasheet)"
part B pins: 2 VDD3.3_2.5 (power) "Connect to 2.5V power supply when W255 is configured for DDR-ONLY mode. Connect to 3.3V power supply, when W255 is configured for standard SDRAM mode.", 3 GND (power) "Ground", 8 VDD3.3_2.5 (power) "Connect to 2.5V power supply when W255 is configured for DDR-ONLY mode. Connect to 3.3V power supply, when W255 is configured for standard SDRAM mode.", 9 GND (power) "Ground", 12 VDD3.3_2.5 (power) "Connect to 2.5V power supply when W255 is configured for DDR-ONLY mode. Connect to 3.3V power supply, when W255 is configured for standard SDRAM mode.", 14 GND (power) "Ground", 17 VDD3.3_2.5 (power) "Connect to 2.5V power supply when W255 is configured for DDR-ONLY mode. Connect to 3.3V power supply, when W255 is configured for standard SDRAM mode.", 18 GND (power) "Ground", 23 VDD3.3_2.5 (power) "Connect to 2.5V power supply when W255 is configured for DDR-ONLY mode. Connect to 3.3V power supply, when W255 is configured for standard SDRAM mode.", 26 GND (power) "Ground", 31 GND (power) "Ground", 32 VDD2.5 (power) "2.5V voltage supply", 35 GND (power) "Ground", 37 VDD2.5 (power) "2.5V voltage supply", 40 GND (power) "Ground", 41 VDD2.5 (power) "2.5V voltage supply", 46 GND (power) "Ground", 47 VDD2.5 (power) "2.5V voltage supply"